# Altium schematic symbol library pasives.SchLib: 10 symbols
Pins are listed as number, name and electrical type; pins without a type are passive.

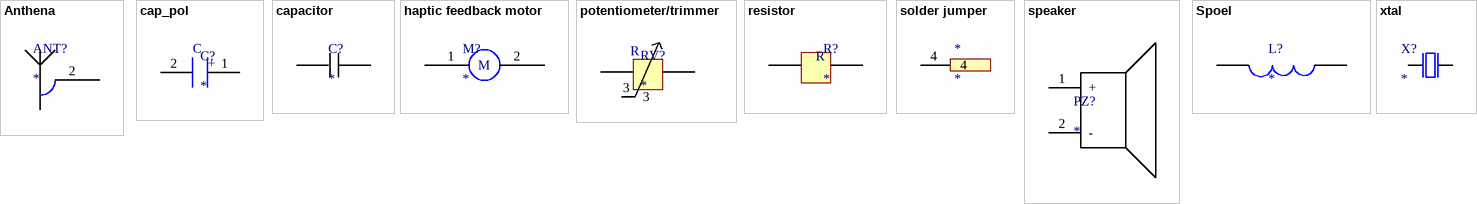
[diagram p0: symbols Anthena to xtal]

## Anthena
designator ANT?
pins: 1, 2

## cap_pol
designator C?
pins: 1, 2
text: C; +

## capacitor
designator C?
footprint CAPC1005X04L
footprint CAPC1608X06L
footprint 0805
footprint 0603
footprint 0402
pins: 1, 2

## haptic feedback motor
designator M?
footprint Haptic feedback motor
pins: 1, 2
text: M

## potentiometer/trimmer
designator RV?
pins: 1, 2, 3
text: R

## resistor
designator R?
footprint CAPC1005X04L
footprint CAPC1608X06L
footprint 0805
footprint 0603
footprint 0402
pins: 1, 2
text: R

## solder jumper
designator *
pins: 4

## speaker
designator PZ?
pins: 1 +, 2 -

## Spoel
designator L?
footprint Coilcraft , XFL4020-102
footprint INDC1005X04L
footprint INDC1608X06L
footprint muratta
footprint 0603
footprint 0402
pins: 1, 2

## xtal
designator X?
footprint BT-XTAL_2016
footprint XTAL_3215
pins: 1 inp, 3 out